# EAGLE library part BOTTLE_SUMO_MAIN (library PA(EN)_Components_Library)
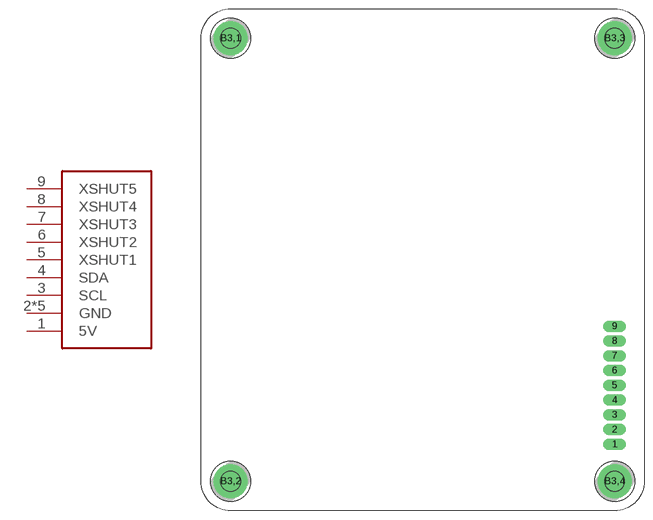
[diagram p14: symbol with the pads of BOTTLE_SUMO_MAIN; footprint BOTTLE_SUMO_MAIN]

Designator prefix U

## BOTTLE_SUMO_MAIN  [BOTTLE_SUMO_MAIN]
1  5V
2  GND
3  SCL
4  SDA
5  XSHUT1
6  XSHUT2
7  XSHUT3
8  XSHUT4
9  XSHUT5
B3,1  GND
B3,2  GND
B3,3  GND
B3,4  GND

## Footprint BOTTLE_SUMO_MAIN (pad centres in mm)
drill 1 pad 2 long: 1 71.12,11.43; 2 71.12,13.97; 3 71.12,16.51; 4 71.12,19.05; 5 71.12,21.577; 6 71.12,24.13; 7 71.12,26.67; 8 71.12,29.21; 9 71.12,31.75
drill 3.2 pad 5.842: B3,1 5.08,81.28; B3,2 5.08,5.08; B3,3 71.12,81.28; B3,4 71.12,5.08